# Altium footprint library ionis.PcbLib: 70 footprints (part 3 of 5)
Each footprint in its own frame and in the unit in brackets; x right, y up, seen from the top. Pads: shape width x height; smd on the part's side, far side on the other; paste and mask are expansions set on the pad; w line width, h text height; cw(c..) or ccw(c..) is an arc to the next point about the centre after c.
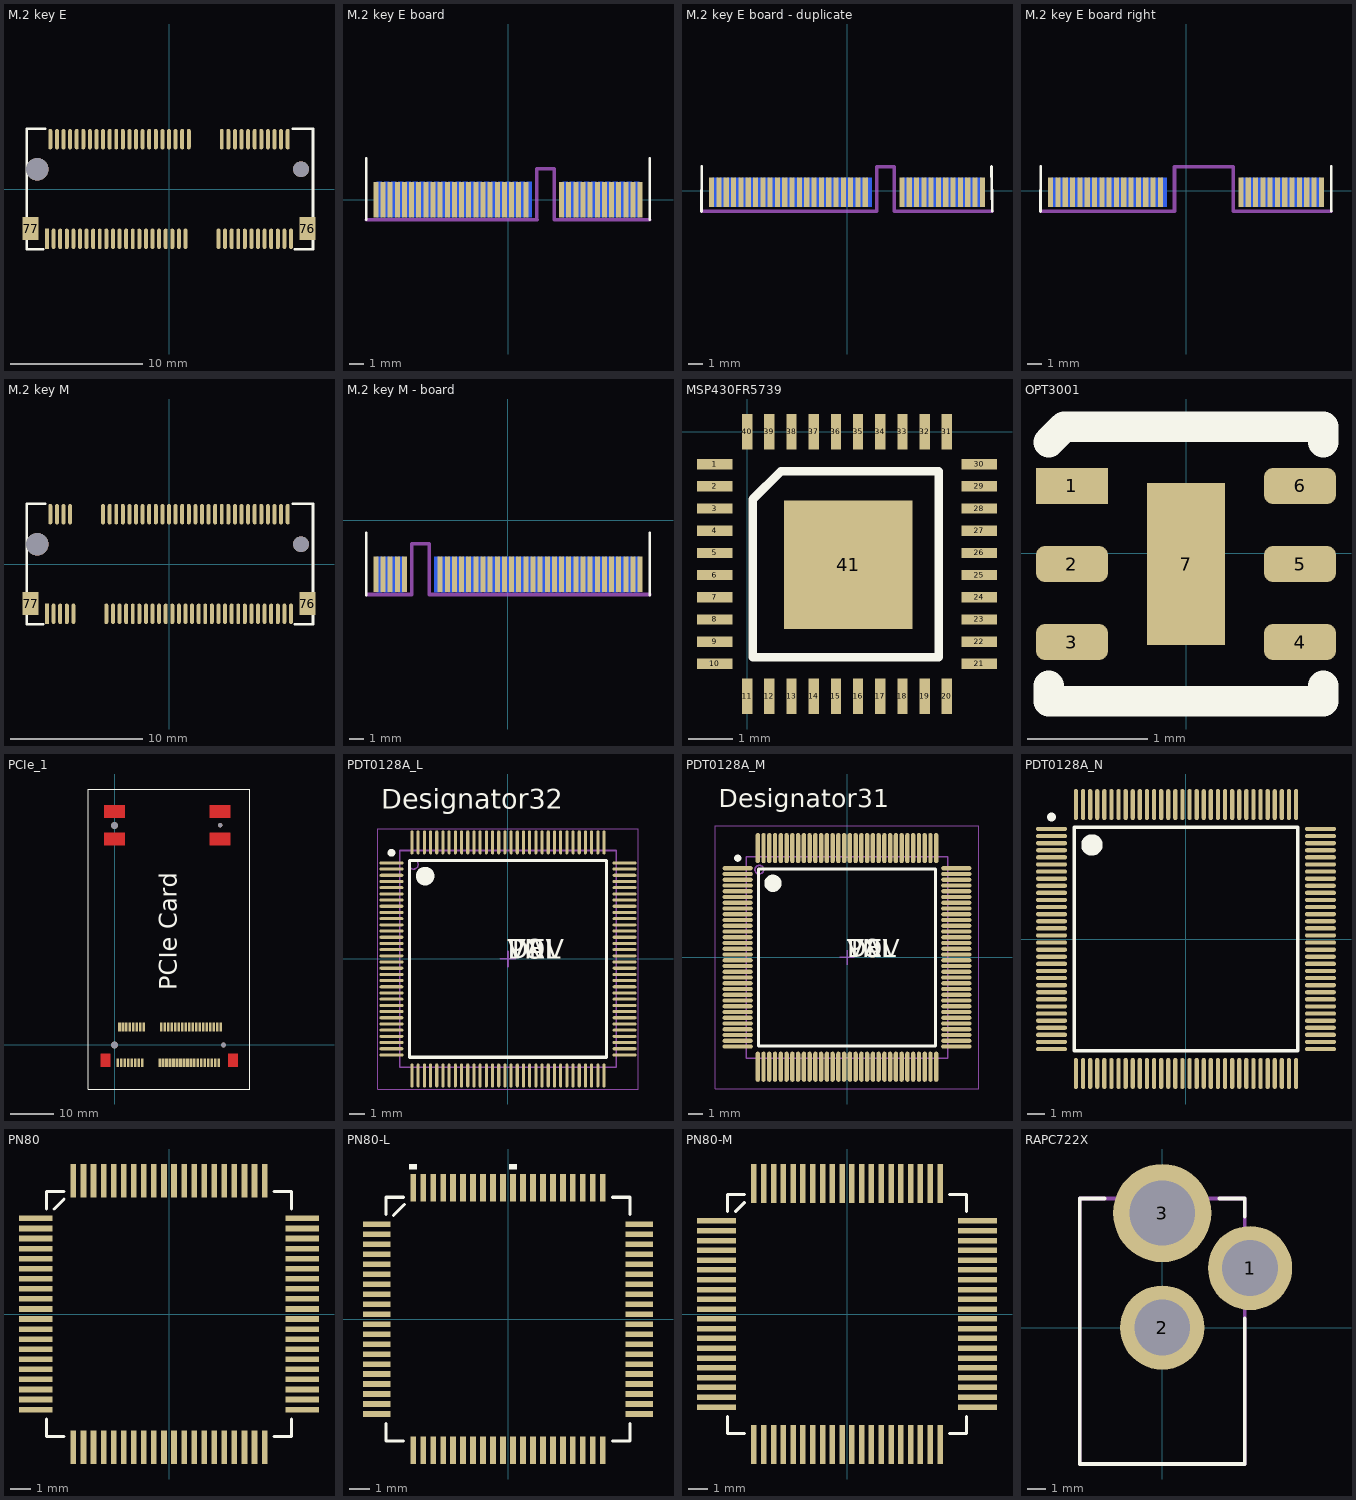
[diagram p2: the footprints below, top view; thin cyan lines are the x and y axes]

## M.2 key E [mm]
pads (69):
  oval 0.3x1.55 smd: 1(9.25,-3.775) 2(9,3.775) 3(8.75,-3.775) 4(8.5,3.775) 5(8.25,-3.775) 6(8,3.775) 7(7.75,-3.775) 8(7.5,3.775) 9(7.25,-3.775) 10(7,3.775) 11(6.75,-3.775) 12(6.5,3.775) 13(6.25,-3.775) 14(6,3.775) 15(5.75,-3.775) 16(5.5,3.775) 17(5.25,-3.775) 18(5,3.775) 19(4.75,-3.775) 20(4.5,3.775) 21(4.25,-3.775) 22(4,3.775) 23(3.75,-3.775) 32(1.5,3.775) 33(1.25,-3.775) 34(1,3.775) 35(0.75,-3.775) 36(0.5,3.775) 37(0.25,-3.775) 38(0,3.775) 39(-0.25,-3.775) 40(-0.5,3.775) 41(-0.75,-3.775) 42(-1,3.775) 43(-1.25,-3.775) 44(-1.5,3.775) 45(-1.75,-3.775) 46(-2,3.775) 47(-2.25,-3.775) 48(-2.5,3.775) 49(-2.75,-3.775) 50(-3,3.775) 51(-3.25,-3.775) 52(-3.5,3.775) 53(-3.75,-3.775) 54(-4,3.775) 55(-4.25,-3.775) 56(-4.5,3.775) 57(-4.75,-3.775) 58(-5,3.775) 59(-5.25,-3.775) 60(-5.5,3.775) 61(-5.75,-3.775) 62(-6,3.775) 63(-6.25,-3.775) 64(-6.5,3.775) 65(-6.75,-3.775) 66(-7,3.775) 67(-7.25,-3.775) 68(-7.5,3.775) 69(-7.75,-3.775) 70(-8,3.775) 71(-8.25,-3.775) 72(-8.5,3.775) 73(-8.75,-3.775) 74(-9,3.775)
  rect 0.3x1.55 smd: 75(-9.25,-3.775)
  rect 1.2x1.75 smd: 76(10.5,-3) 77(-10.5,-3)
via -10,1.5 diameter 1.7 hole 1.7
via 10,1.5 diameter 1.2 hole 1.2
Top Overlay:
  lines w0.2: -10.795,-3.429 -10.795,4.572 -9.398,4.572 ; -10.795,-0.125 -10.795,-4.572 -9.525,-4.572 ; 9.398,4.572 10.922,4.572 10.922,-4.572 9.525,-4.572

## M.2 key E board [mm]
pads (67):
  rect 0.35x2.5 smd: 1(9.25,0) 3(8.75,0) 5(8.25,0) 7(7.75,0) 9(7.25,0) 11(6.75,0) 13(6.25,0) 15(5.75,0) 17(5.25,0) 19(4.75,0) 21(4.25,0) 23(3.75,0) 33(1.25,0) 35(0.75,0) 37(0.25,0) 39(-0.25,0) 41(-0.75,0) 43(-1.25,0) 45(-1.75,0) 47(-2.25,0) 49(-2.75,0) 51(-3.25,0) 53(-3.75,0) 55(-4.25,0) 57(-4.75,0) 59(-5.25,0) 61(-5.75,0) 63(-6.25,0) 65(-6.75,0) 67(-7.25,0) 69(-7.75,0) 71(-8.25,0) 73(-8.75,0) 75(-9.25,0)
  rect 0.35x2.5 smd far side: 2(9,0) 4(8.5,0) 6(8,0) 8(7.5,0) 10(7,0) 12(6.5,0) 14(6,0) 16(5.5,0) 18(5,0) 20(4.5,0) 22(4,0) 32(1.5,0) 34(1,0) 36(0.5,0) 38(0,0) 40(-0.5,0) 42(-1,0) 44(-1.5,0) 46(-2,0) 48(-2.5,0) 50(-3,0) 52(-3.5,0) 54(-4,0) 56(-4.5,0) 58(-5,0) 60(-5.5,0) 62(-6,0) 64(-6.5,0) 66(-7,0) 68(-7.5,0) 70(-8,0) 72(-8.5,0) 74(-9,0)
Top Overlay:
  lines w0.2: -9.925,-1.397 -9.925,2.886 ; 9.925,-1.397 9.925,2.886
Mechanical 1:
  lines w0.254: -9.906,-1.397 2.032,-1.397 ; 2.025,-1.397 2.025,2.159 ; 2.032,2.159 3.226,2.159 ; 3.225,-1.397 3.225,2.159 ; 3.226,-1.397 9.906,-1.397

## M.2 key E board - duplicate [mm]
pads (67):
  rect 0.35x2 smd: 1(9.25,-0.1) 3(8.75,-0.1) 5(8.25,-0.1) 7(7.75,-0.1) 9(7.25,-0.1) 11(6.75,-0.1) 13(6.25,-0.1) 15(5.75,-0.1) 17(5.25,-0.1) 19(4.75,-0.1) 21(4.25,-0.1) 23(3.75,-0.1) 33(1.25,-0.1) 35(0.75,-0.1) 37(0.25,-0.1) 39(-0.25,-0.1) 41(-0.75,-0.1) 43(-1.25,-0.1) 45(-1.75,-0.1) 47(-2.25,-0.1) 49(-2.75,-0.1) 51(-3.25,-0.1) 53(-3.75,-0.1) 55(-4.25,-0.1) 57(-4.75,-0.1) 59(-5.25,-0.1) 61(-5.75,-0.1) 63(-6.25,-0.1) 65(-6.75,-0.1) 67(-7.25,-0.1) 69(-7.75,-0.1) 71(-8.25,-0.1) 73(-8.75,-0.1) 75(-9.25,-0.1)
  rect 0.35x2 smd far side: 2(9,-0.1) 4(8.5,-0.1) 6(8,-0.1) 8(7.5,-0.1) 10(7,-0.1) 12(6.5,-0.1) 14(6,-0.1) 16(5.5,-0.1) 18(5,-0.1) 20(4.5,-0.1) 22(4,-0.1) 32(1.5,-0.1) 34(1,-0.1) 36(0.5,-0.1) 38(0,-0.1) 40(-0.5,-0.1) 42(-1,-0.1) 44(-1.5,-0.1) 46(-2,-0.1) 48(-2.5,-0.1) 50(-3,-0.1) 52(-3.5,-0.1) 54(-4,-0.1) 56(-4.5,-0.1) 58(-5,-0.1) 60(-5.5,-0.1) 62(-6,-0.1) 64(-6.5,-0.1) 66(-7,-0.1) 68(-7.5,-0.1) 70(-8,-0.1) 72(-8.5,-0.1) 74(-9,-0.1)
Top Overlay:
  lines w0.2: -9.95,-1.422 -9.925,1.657 ; 9.874,1.667 9.925,-1.397
Mechanical 1:
  lines w0.254: -9.906,-1.397 2.032,-1.397 ; 2.025,-1.397 2.025,1.651 3.225,1.651 3.225,-1.397 ; 3.226,-1.397 9.906,-1.397

## M.2 key E board right [mm]
pads (55):
  rect 0.35x2 smd: 1(9.25,-0.1) 3(8.75,-0.1) 5(8.25,-0.1) 7(7.75,-0.1) 9(7.25,-0.1) 11(6.75,-0.1) 13(6.25,-0.1) 15(5.75,-0.1) 17(5.25,-0.1) 19(4.75,-0.1) 21(4.25,-0.1) 23(3.75,-0.1) 45(-1.75,-0.1) 47(-2.25,-0.1) 49(-2.75,-0.1) 51(-3.25,-0.1) 53(-3.75,-0.1) 55(-4.25,-0.1) 57(-4.75,-0.1) 59(-5.25,-0.1) 61(-5.75,-0.1) 63(-6.25,-0.1) 65(-6.75,-0.1) 67(-7.25,-0.1) 69(-7.75,-0.1) 71(-8.25,-0.1) 73(-8.75,-0.1) 75(-9.25,-0.1)
  rect 0.35x2 smd far side: 2(9,-0.1) 4(8.5,-0.1) 6(8,-0.1) 8(7.5,-0.1) 10(7,-0.1) 12(6.5,-0.1) 14(6,-0.1) 16(5.5,-0.1) 18(5,-0.1) 20(4.5,-0.1) 22(4,-0.1) 44(-1.5,-0.1) 46(-2,-0.1) 48(-2.5,-0.1) 50(-3,-0.1) 52(-3.5,-0.1) 54(-4,-0.1) 56(-4.5,-0.1) 58(-5,-0.1) 60(-5.5,-0.1) 62(-6,-0.1) 64(-6.5,-0.1) 66(-7,-0.1) 68(-7.5,-0.1) 70(-8,-0.1) 72(-8.5,-0.1) 74(-9,-0.1)
Top Overlay:
  lines w0.2: -9.95,-1.422 -9.925,1.657 ; 9.925,-1.397 9.925,1.667
Mechanical 1:
  lines w0.254: -9.906,-1.397 -0.787,-1.397 -0.787,1.651 3.225,1.651 3.225,-1.397 ; 3.226,-1.397 9.906,-1.397

## M.2 key M [mm]
pads (69):
  oval 0.3x1.55 smd: 1(9.25,-3.775) 2(9,3.775) 3(8.75,-3.775) 4(8.5,3.775) 5(8.25,-3.775) 6(8,3.775) 7(7.75,-3.775) 8(7.5,3.775) 9(7.25,-3.775) 10(7,3.775) 11(6.75,-3.775) 12(6.5,3.775) 13(6.25,-3.775) 14(6,3.775) 15(5.75,-3.775) 16(5.5,3.775) 17(5.25,-3.775) 18(5,3.775) 19(4.75,-3.775) 20(4.5,3.775) 21(4.25,-3.775) 22(4,3.775) 23(3.75,-3.775) 24(3.5,3.775) 25(3.25,-3.775) 26(3,3.775) 27(2.75,-3.775) 28(2.5,3.775) 29(2.25,-3.775) 30(2,3.775) 31(1.75,-3.775) 32(1.5,3.775) 33(1.25,-3.775) 34(1,3.775) 35(0.75,-3.775) 36(0.5,3.775) 37(0.25,-3.775) 38(0,3.775) 39(-0.25,-3.775) 40(-0.5,3.775) 41(-0.75,-3.775) 42(-1,3.775) 43(-1.25,-3.775) 44(-1.5,3.775) 45(-1.75,-3.775) 46(-2,3.775) 47(-2.25,-3.775) 48(-2.5,3.775) 49(-2.75,-3.775) 50(-3,3.775) 51(-3.25,-3.775) 52(-3.5,3.775) 53(-3.75,-3.775) 54(-4,3.775) 55(-4.25,-3.775) 56(-4.5,3.775) 57(-4.75,-3.775) 58(-5,3.775) 67(-7.25,-3.775) 68(-7.5,3.775) 69(-7.75,-3.775) 70(-8,3.775) 71(-8.25,-3.775) 72(-8.5,3.775) 73(-8.75,-3.775) 74(-9,3.775)
  rect 0.3x1.55 smd: 75(-9.25,-3.775)
  rect 1.2x1.75 smd: 76(10.5,-3) 77(-10.5,-3)
via -10,1.5 diameter 1.7 hole 1.7
via 10,1.5 diameter 1.2 hole 1.2
Top Overlay:
  lines w0.2: -10.795,-3.429 -10.795,4.572 -9.398,4.572 ; -10.795,-0.125 -10.795,-4.572 -9.525,-4.572 ; 9.398,4.572 10.922,4.572 10.922,-4.572 9.525,-4.572

## M.2 key M - board [mm]
pads (67):
  rect 0.35x2.5 smd: 1(9.25,-3.775) 3(8.75,-3.775) 5(8.25,-3.775) 7(7.75,-3.775) 9(7.25,-3.775) 11(6.75,-3.775) 13(6.25,-3.775) 15(5.75,-3.775) 17(5.25,-3.775) 19(4.75,-3.775) 21(4.25,-3.775) 23(3.75,-3.775) 25(3.25,-3.775) 27(2.75,-3.775) 29(2.25,-3.775) 31(1.75,-3.775) 33(1.25,-3.775) 35(0.75,-3.775) 37(0.25,-3.775) 39(-0.25,-3.775) 41(-0.75,-3.775) 43(-1.25,-3.775) 45(-1.75,-3.775) 47(-2.25,-3.775) 49(-2.75,-3.775) 51(-3.25,-3.775) 53(-3.75,-3.775) 55(-4.25,-3.775) 57(-4.75,-3.775) 67(-7.25,-3.775) 69(-7.75,-3.775) 71(-8.25,-3.775) 73(-8.75,-3.775) 75(-9.25,-3.775)
  rect 0.35x2.5 smd far side: 2(9,-3.775) 4(8.5,-3.775) 6(8,-3.775) 8(7.5,-3.775) 10(7,-3.775) 12(6.5,-3.775) 14(6,-3.775) 16(5.5,-3.775) 18(5,-3.775) 20(4.5,-3.775) 22(4,-3.775) 24(3.5,-3.775) 26(3,-3.775) 28(2.5,-3.775) 30(2,-3.775) 32(1.5,-3.775) 34(1,-3.775) 36(0.5,-3.775) 38(0,-3.775) 40(-0.5,-3.775) 42(-1,-3.775) 44(-1.5,-3.775) 46(-2,-3.775) 48(-2.5,-3.775) 50(-3,-3.775) 52(-3.5,-3.775) 54(-4,-3.775) 56(-4.5,-3.775) 58(-5,-3.775) 68(-7.5,-3.775) 70(-8,-3.775) 72(-8.5,-3.775) 74(-9,-3.775)
Top Overlay:
  lines w0.2: -9.925,-5.207 -9.925,-0.889 ; 9.925,-5.207 9.925,-0.889
Mechanical 1:
  lines w0.254: -9.881,-5.182 -6.756,-5.182 ; -6.725,-5.182 -6.725,-1.626 -5.525,-1.626 -5.525,-5.182 ; -5.486,-5.182 9.931,-5.182

## MSP430FR5739 [mm]
pads (41):
  rect 0.8x0.23 smd: 1(-0.73,-0.73) 2(-0.73,-1.23) 3(-0.73,-1.73) 4(-0.73,-2.23) 5(-0.73,-2.73) 6(-0.73,-3.23) 7(-0.73,-3.73) 8(-0.73,-4.23) 9(-0.73,-4.73) 10(-0.73,-5.23) 21(5.23,-5.23) 22(5.23,-4.73) 23(5.23,-4.23) 24(5.23,-3.73) 25(5.23,-3.23) 26(5.23,-2.73) 27(5.23,-2.23) 28(5.23,-1.73) 29(5.23,-1.23) 30(5.23,-0.73)
  rect 0.23x0.8 smd: 11(0,-5.96) 12(0.5,-5.96) 13(1,-5.96) 14(1.5,-5.96) 15(2,-5.96) 16(2.5,-5.96) 17(3,-5.96) 18(3.5,-5.96) 19(4,-5.96) 20(4.5,-5.96) 31(4.5,0) 32(4,0) 33(3.5,0) 34(3,0) 35(2.5,0) 36(2,0) 37(1.5,0) 38(1,0) 39(0.5,0) 40(0,0)
  rect 2.9x2.9 smd: 41(2.275,-3)
Top Overlay:
  lines w0.2: 0.127,-5.08 4.318,-5.08 4.318,-0.889 0.762,-0.889 0.127,-1.524 0.127,-5.08

## OPT3001 [mm]
pads (7):
  rect 0.6x0.3 smd: 1(-0.95,0.56)
  rrect50% 0.6x0.3 smd: 2(-0.95,-0.09) 3(-0.95,-0.74) 4(0.95,-0.74) 5(0.95,-0.09) 6(0.95,0.56)
  rect 0.65x1.35 smd: 7(0,-0.09)
Top Overlay:
  lines w0.254: -1.143,-1.106 -1.143,-1.233 1.143,-1.233 1.143,-1.106 ; -1.143,0.926 -1.016,1.053 1.143,1.053 1.143,0.926

## PCIe_1 [mm]
pads (52):
  rect 0.6x2 smd: 1(0.7,-4.1) 2(1.1,4.1) 3(1.5,-4.1) 4(1.9,4.1) 5(2.3,-4.1) 6(2.7,4.1) 7(3.1,-4.1) 8(3.5,4.1) 9(3.9,-4.1) 10(4.3,4.1) 11(4.7,-4.1) 12(5.1,4.1) 13(5.5,-4.1) 14(5.9,4.1) 15(6.3,-4.1) 16(6.7,4.1) 17(10.3,-4.1) 18(10.7,4.1) 19(11.1,-4.1) 20(11.5,4.1) 21(11.9,-4.1) 22(12.3,4.1) 23(12.7,-4.1) 24(13.1,4.1) 25(13.5,-4.1) 26(13.9,4.1) 27(14.3,-4.1) 28(14.7,4.1) 29(15.1,-4.1) 30(15.5,4.1) 31(15.9,-4.1) 32(16.3,4.1) 33(16.7,-4.1) 34(17.1,4.1) 35(17.5,-4.1) 36(17.9,4.1) 37(18.3,-4.1) 38(18.7,4.1) 39(19.1,-4.1) 40(19.5,4.1) 41(19.9,-4.1) 42(20.3,4.1) 43(20.7,-4.1) 44(21.1,4.1) 45(21.5,-4.1) 46(21.9,4.1) 47(22.3,-4.1) 48(22.7,4.1) 49(23.1,-4.1) 50(23.5,4.1) 51(23.9,-4.1) 52(24.3,4.1)
via 24.2,50.4 diameter 1.1 hole 1.1
via 0,50.4 diameter 1.6 hole 1.6
via 25,0 diameter 1.1 hole 1.1
via 0,0 diameter 1.6 hole 1.6
Top Layer:
  rectangle: 21.8,45.75 26.6,48.75
  rectangle: 21.8,52.05 26.6,55.05
  rectangle: -2.4,45.75 2.4,48.75
  rectangle: -2.4,52.05 2.4,55.05
  rectangle: -3.3,-5.1 -1,-1.9
  rectangle: 26,-5.1 28.3,-1.9
Top Overlay:
  lines w0.254: 30.963,58.725 -6.071,58.725 -6.071,-10.1 31,-10.1 31,58.725
  text "PCIe Card" at 14.224,12.598 h4

## PDT0128A_L [mm]
pads (128):
  oval 1.55x0.2 smd paste-0.762 mask+0.051: 1(-7.525,6.2) 2(-7.525,5.8) 3(-7.525,5.4) 4(-7.525,5) 5(-7.525,4.6) 6(-7.525,4.2) 7(-7.525,3.8) 8(-7.525,3.4) 9(-7.525,3) 10(-7.525,2.6) 11(-7.525,2.2) 12(-7.525,1.8) 13(-7.525,1.4) 14(-7.525,1) 15(-7.525,0.6) 16(-7.525,0.2) 17(-7.525,-0.2) 18(-7.525,-0.6) 19(-7.525,-1) 20(-7.525,-1.4) 21(-7.525,-1.8) 22(-7.525,-2.2) 23(-7.525,-2.6) 24(-7.525,-3) 25(-7.525,-3.4) 26(-7.525,-3.8) 27(-7.525,-4.2) 28(-7.525,-4.6) 29(-7.525,-5) 30(-7.525,-5.4) 31(-7.525,-5.8) 32(-7.525,-6.2) 65(7.525,-6.2) 66(7.525,-5.8) 67(7.525,-5.4) 68(7.525,-5) 69(7.525,-4.6) 70(7.525,-4.2) 71(7.525,-3.8) 72(7.525,-3.4) 73(7.525,-3) 74(7.525,-2.6) 75(7.525,-2.2) 76(7.525,-1.8) 77(7.525,-1.4) 78(7.525,-1) 79(7.525,-0.6) 80(7.525,-0.2) 81(7.525,0.2) 82(7.525,0.6) 83(7.525,1) 84(7.525,1.4) 85(7.525,1.8) 86(7.525,2.2) 87(7.525,2.6) 88(7.525,3) 89(7.525,3.4) 90(7.525,3.8) 91(7.525,4.2) 92(7.525,4.6) 93(7.525,5) 94(7.525,5.4) 95(7.525,5.8) 96(7.525,6.2)
  oval 0.2x1.55 smd paste-0.762 mask+0.051: 33(-6.2,-7.525) 34(-5.8,-7.525) 35(-5.4,-7.525) 36(-5,-7.525) 37(-4.6,-7.525) 38(-4.2,-7.525) 39(-3.8,-7.525) 40(-3.4,-7.525) 41(-3,-7.525) 42(-2.6,-7.525) 43(-2.2,-7.525) 44(-1.8,-7.525) 45(-1.4,-7.525) 46(-1,-7.525) 47(-0.6,-7.525) 48(-0.2,-7.525) 49(0.2,-7.525) 50(0.6,-7.525) 51(1,-7.525) 52(1.4,-7.525) 53(1.8,-7.525) 54(2.2,-7.525) 55(2.6,-7.525) 56(3,-7.525) 57(3.4,-7.525) 58(3.8,-7.525) 59(4.2,-7.525) 60(4.6,-7.525) 61(5,-7.525) 62(5.4,-7.525) 63(5.8,-7.525) 64(6.2,-7.525) 97(6.2,7.525) 98(5.8,7.525) 99(5.4,7.525) 100(5,7.525) 101(4.6,7.525) 102(4.2,7.525) 103(3.8,7.525) 104(3.4,7.525) 105(3,7.525) 106(2.6,7.525) 107(2.2,7.525) 108(1.8,7.525) 109(1.4,7.525) 110(1,7.525) 111(0.6,7.525) 112(0.2,7.525) 113(-0.2,7.525) 114(-0.6,7.525) 115(-1,7.525) 116(-1.4,7.525) 117(-1.8,7.525) 118(-2.2,7.525) 119(-2.6,7.525) 120(-3,7.525) 121(-3.4,7.525) 122(-3.8,7.525) 123(-4.2,7.525) 124(-4.6,7.525) 125(-5,7.525) 126(-5.4,7.525) 127(-5.8,7.525) 128(-6.2,7.525)
Top Overlay:
  circle w0.6: c-5.35,5.35 r0.3
  circle w0.25: c-7.525,6.85 r0.125
  lines w0.2: -6.35,-6.35 6.35,-6.35 6.35,6.35 -6.35,6.35 -6.35,-6.35
  text "Designator32" at -8.179,9.703 h1.27
  text "TOL" at 0,0 h1.27
  text "VAL" at 0,0 h1.27
  text "PN" at 0,0 h1.27
  text "DEV" at 0,0 h1.27
Mechanical 13:
  circle w0.1: c-6.1,6.1 r0.3
  lines w0.1: -7,-7 7,-7 7,7 -7,7 -7,-7
  text ".Designator" at -1.854,-0.508 h1.27
Mechanical 15:
  lines w0.05: -8.4,-8.4 8.4,-8.4 8.4,8.4 -8.4,8.4 -8.4,-8.4
  lines w0.1: -0.5,0 0.5,0 ; 0,-0.5 0,0.5
3D body: height 0.25, standoff 0, extent 0,0 0.254,0.254

## PDT0128A_M [mm]
pads (128):
  oval 2.1x0.3 smd paste-0.102 mask+0.051: 1(-7.6,6.2) 2(-7.6,5.8) 3(-7.6,5.4) 4(-7.6,5) 5(-7.6,4.6) 6(-7.6,4.2) 7(-7.6,3.8) 8(-7.6,3.4) 9(-7.6,3) 10(-7.6,2.6) 11(-7.6,2.2) 12(-7.6,1.8) 13(-7.6,1.4) 14(-7.6,1) 15(-7.6,0.6) 16(-7.6,0.2) 17(-7.6,-0.2) 18(-7.6,-0.6) 19(-7.6,-1) 20(-7.6,-1.4) 21(-7.6,-1.8) 22(-7.6,-2.2) 23(-7.6,-2.6) 24(-7.6,-3) 25(-7.6,-3.4) 26(-7.6,-3.8) 27(-7.6,-4.2) 28(-7.6,-4.6) 29(-7.6,-5) 30(-7.6,-5.4) 31(-7.6,-5.8) 32(-7.6,-6.2) 65(7.6,-6.2) 66(7.6,-5.8) 67(7.6,-5.4) 68(7.6,-5) 69(7.6,-4.6) 70(7.6,-4.2) 71(7.6,-3.8) 72(7.6,-3.4) 73(7.6,-3) 74(7.6,-2.6) 75(7.6,-2.2) 76(7.6,-1.8) 77(7.6,-1.4) 78(7.6,-1) 79(7.6,-0.6) 80(7.6,-0.2) 81(7.6,0.2) 82(7.6,0.6) 83(7.6,1) 84(7.6,1.4) 85(7.6,1.8) 86(7.6,2.2) 87(7.6,2.6) 88(7.6,3) 89(7.6,3.4) 90(7.6,3.8) 91(7.6,4.2) 92(7.6,4.6) 93(7.6,5) 94(7.6,5.4) 95(7.6,5.8) 96(7.6,6.2)
  oval 0.3x2.1 smd paste-0.102 mask+0.051: 33(-6.2,-7.6) 34(-5.8,-7.6) 35(-5.4,-7.6) 36(-5,-7.6) 37(-4.6,-7.6) 38(-4.2,-7.6) 39(-3.8,-7.6) 40(-3.4,-7.6) 41(-3,-7.6) 42(-2.6,-7.6) 43(-2.2,-7.6) 44(-1.8,-7.6) 45(-1.4,-7.6) 46(-1,-7.6) 47(-0.6,-7.6) 48(-0.2,-7.6) 49(0.2,-7.6) 50(0.6,-7.6) 51(1,-7.6) 52(1.4,-7.6) 53(1.8,-7.6) 54(2.2,-7.6) 55(2.6,-7.6) 56(3,-7.6) 57(3.4,-7.6) 58(3.8,-7.6) 59(4.2,-7.6) 60(4.6,-7.6) 61(5,-7.6) 62(5.4,-7.6) 63(5.8,-7.6) 64(6.2,-7.6) 97(6.2,7.6) 98(5.8,7.6) 99(5.4,7.6) 100(5,7.6) 101(4.6,7.6) 102(4.2,7.6) 103(3.8,7.6) 104(3.4,7.6) 105(3,7.6) 106(2.6,7.6) 107(2.2,7.6) 108(1.8,7.6) 109(1.4,7.6) 110(1,7.6) 111(0.6,7.6) 112(0.2,7.6) 113(-0.2,7.6) 114(-0.6,7.6) 115(-1,7.6) 116(-1.4,7.6) 117(-1.8,7.6) 118(-2.2,7.6) 119(-2.6,7.6) 120(-3,7.6) 121(-3.4,7.6) 122(-3.8,7.6) 123(-4.2,7.6) 124(-4.6,7.6) 125(-5,7.6) 126(-5.4,7.6) 127(-5.8,7.6) 128(-6.2,7.6)
Top Overlay:
  circle w0.25: c-7.6,6.9 r0.125
  circle w0.6: c-5.15,5.15 r0.3
  lines w0.2: -6.15,-6.15 -6.15,6.15 6.15,6.15 6.15,-6.15 -6.15,-6.15
  text "Designator31" at -8.915,10.439 h1.27
  text "TOL" at 0,0 h1.27
  text "VAL" at 0,0 h1.27
  text "PN" at 0,0 h1.27
  text "DEV" at 0,0 h1.27
Mechanical 13:
  circle w0.1: c-6.1,6.1 r0.3
  lines w0.1: -7,-7 -7,7 7,7 7,-7 -7,-7
  text ".Designator" at -1.854,-0.508 h1.27
Mechanical 15:
  lines w0.05: -9.15,-9.15 -9.15,9.15 9.15,9.15 9.15,-9.15 -9.15,-9.15
  lines w0.1: -0.5,0 0.5,0 ; 0,-0.5 0,0.5
3D body: height 0.25, standoff 0, extent 0,0 0.254,0.254

## PDT0128A_N [mm]
pads (128):
  oval 1.75x0.24 smd paste-0.102 mask+0.051: 1(-7.575,6.2) 2(-7.575,5.8) 3(-7.575,5.4) 4(-7.575,5) 5(-7.575,4.6) 6(-7.575,4.2) 7(-7.575,3.8) 8(-7.575,3.4) 9(-7.575,3) 10(-7.575,2.6) 11(-7.575,2.2) 12(-7.575,1.8) 13(-7.575,1.4) 14(-7.575,1) 15(-7.575,0.6) 16(-7.575,0.2) 17(-7.575,-0.2) 18(-7.575,-0.6) 19(-7.575,-1) 20(-7.575,-1.4) 21(-7.575,-1.8) 22(-7.575,-2.2) 23(-7.575,-2.6) 24(-7.575,-3) 25(-7.575,-3.4) 26(-7.575,-3.8) 27(-7.575,-4.2) 28(-7.575,-4.6) 29(-7.575,-5) 30(-7.575,-5.4) 31(-7.575,-5.8) 32(-7.575,-6.2) 65(7.575,-6.2) 66(7.575,-5.8) 67(7.575,-5.4) 68(7.575,-5) 69(7.575,-4.6) 70(7.575,-4.2) 71(7.575,-3.8) 72(7.575,-3.4) 73(7.575,-3) 74(7.575,-2.6) 75(7.575,-2.2) 76(7.575,-1.8) 77(7.575,-1.4) 78(7.575,-1) 79(7.575,-0.6) 80(7.575,-0.2) 81(7.575,0.2) 82(7.575,0.6) 83(7.575,1) 84(7.575,1.4) 85(7.575,1.8) 86(7.575,2.2) 87(7.575,2.6) 88(7.575,3) 89(7.575,3.4) 90(7.575,3.8) 91(7.575,4.2) 92(7.575,4.6) 93(7.575,5) 94(7.575,5.4) 95(7.575,5.8) 96(7.575,6.2)
  oval 0.24x1.75 smd paste-0.102 mask+0.051: 33(-6.2,-7.575) 34(-5.8,-7.575) 35(-5.4,-7.575) 36(-5,-7.575) 37(-4.6,-7.575) 38(-4.2,-7.575) 39(-3.8,-7.575) 40(-3.4,-7.575) 41(-3,-7.575) 42(-2.6,-7.575) 43(-2.2,-7.575) 44(-1.8,-7.575) 45(-1.4,-7.575) 46(-1,-7.575) 47(-0.6,-7.575) 48(-0.2,-7.575) 49(0.2,-7.575) 50(0.6,-7.575) 51(1,-7.575) 52(1.4,-7.575) 53(1.8,-7.575) 54(2.2,-7.575) 55(2.6,-7.575) 56(3,-7.575) 57(3.4,-7.575) 58(3.8,-7.575) 59(4.2,-7.575) 60(4.6,-7.575) 61(5,-7.575) 62(5.4,-7.575) 63(5.8,-7.575) 64(6.2,-7.575) 97(6.2,7.575) 98(5.8,7.575) 99(5.4,7.575) 100(5,7.575) 101(4.6,7.575) 102(4.2,7.575) 103(3.8,7.575) 104(3.4,7.575) 105(3,7.575) 106(2.6,7.575) 107(2.2,7.575) 108(1.8,7.575) 109(1.4,7.575) 110(1,7.575) 111(0.6,7.575) 112(0.2,7.575) 113(-0.2,7.575) 114(-0.6,7.575) 115(-1,7.575) 116(-1.4,7.575) 117(-1.8,7.575) 118(-2.2,7.575) 119(-2.6,7.575) 120(-3,7.575) 121(-3.4,7.575) 122(-3.8,7.575) 123(-4.2,7.575) 124(-4.6,7.575) 125(-5,7.575) 126(-5.4,7.575) 127(-5.8,7.575) 128(-6.2,7.575)
Top Overlay:
  circle w0.25: c-7.575,6.87 r0.125
  circle w0.6: c-5.3,5.3 r0.3
  lines w0.2: -6.3,-6.3 -6.3,6.3 6.3,6.3 6.3,-6.3 -6.3,-6.3

## PN80 [mil]
pads (80):
  rect 66x11 smd: 1(-260.5,187.01) 2(-260.5,167.32) 3(-260.5,147.64) 4(-260.5,127.95) 5(-260.5,108.27) 6(-260.5,88.58) 7(-260.5,68.9) 8(-260.5,49.21) 9(-260.5,29.53) 10(-260.5,9.84) 11(-260.5,-9.84) 12(-260.5,-29.53) 13(-260.5,-49.21) 14(-260.5,-68.9) 15(-260.5,-88.58) 16(-260.5,-108.27) 17(-260.5,-127.95) 18(-260.5,-147.64) 19(-260.5,-167.32) 20(-260.5,-187.01) 41(260.5,-187.01) 42(260.5,-167.32) 43(260.5,-147.64) 44(260.5,-127.95) 45(260.5,-108.27) 46(260.5,-88.58) 47(260.5,-68.9) 48(260.5,-49.21) 49(260.5,-29.53) 50(260.5,-9.84) 51(260.5,9.84) 52(260.5,29.53) 53(260.5,49.21) 54(260.5,68.9) 55(260.5,88.58) 56(260.5,108.27) 57(260.5,127.95) 58(260.5,147.64) 59(260.5,167.32) 60(260.5,187.01)
  rect 11x66 smd: 21(-187.01,-260.5) 22(-167.32,-260.5) 23(-147.64,-260.5) 24(-127.95,-260.5) 25(-108.27,-260.5) 26(-88.58,-260.5) 27(-68.9,-260.5) 28(-49.21,-260.5) 29(-29.53,-260.5) 30(-9.84,-260.5) 31(9.84,-260.5) 32(29.53,-260.5) 33(49.21,-260.5) 34(68.9,-260.5) 35(88.58,-260.5) 36(108.27,-260.5) 37(127.95,-260.5) 38(147.64,-260.5) 39(167.32,-260.5) 40(187.01,-260.5) 61(187.01,260.5) 62(167.32,260.5) 63(147.64,260.5) 64(127.95,260.5) 65(108.27,260.5) 66(88.58,260.5) 67(68.9,260.5) 68(49.21,260.5) 69(29.53,260.5) 70(9.84,260.5) 71(-9.84,260.5) 72(-29.53,260.5) 73(-49.21,260.5) 74(-68.9,260.5) 75(-88.58,260.5) 76(-108.27,260.5) 77(-127.95,260.5) 78(-147.64,260.5) 79(-167.32,260.5) 80(-187.01,260.5)
Top Overlay:
  lines w6: -240,-205.61 -240,-240 -205.61,-240 ; -240,205.61 -240,240 -205.61,240 ; -224.7,205.3 -205.3,224.7 ; 205.61,-240 240,-240 240,-205.61 ; 205.61,240 240,240 240,205.61

## PN80-L [mil]
pads (80):
  rect 54x11 smd: 1(-258.5,187.01) 2(-258.5,167.32) 3(-258.5,147.64) 4(-258.5,127.95) 5(-258.5,108.27) 6(-258.5,88.58) 7(-258.5,68.9) 8(-258.5,49.21) 9(-258.5,29.53) 10(-258.5,9.84) 11(-258.5,-9.84) 12(-258.5,-29.53) 13(-258.5,-49.21) 14(-258.5,-68.9) 15(-258.5,-88.58) 16(-258.5,-108.27) 17(-258.5,-127.95) 18(-258.5,-147.64) 19(-258.5,-167.32) 20(-258.5,-187.01) 41(258.5,-187.01) 42(258.5,-167.32) 43(258.5,-147.64) 44(258.5,-127.95) 45(258.5,-108.27) 46(258.5,-88.58) 47(258.5,-68.9) 48(258.5,-49.21) 49(258.5,-29.53) 50(258.5,-9.84) 51(258.5,9.84) 52(258.5,29.53) 53(258.5,49.21) 54(258.5,68.9) 55(258.5,88.58) 56(258.5,108.27) 57(258.5,127.95) 58(258.5,147.64) 59(258.5,167.32) 60(258.5,187.01)
  rect 11x54 smd: 21(-187.01,-258.5) 22(-167.32,-258.5) 23(-147.64,-258.5) 24(-127.95,-258.5) 25(-108.27,-258.5) 26(-88.58,-258.5) 27(-68.9,-258.5) 28(-49.21,-258.5) 29(-29.53,-258.5) 30(-9.84,-258.5) 31(9.84,-258.5) 32(29.53,-258.5) 33(49.21,-258.5) 34(68.9,-258.5) 35(88.58,-258.5) 36(108.27,-258.5) 37(127.95,-258.5) 38(147.64,-258.5) 39(167.32,-258.5) 40(187.01,-258.5) 61(187.01,258.5) 62(167.32,258.5) 63(147.64,258.5) 64(127.95,258.5) 65(108.27,258.5) 66(88.58,258.5) 67(68.9,258.5) 68(49.21,258.5) 69(29.53,258.5) 70(9.84,258.5) 71(-9.84,258.5) 72(-29.53,258.5) 73(-49.21,258.5) 74(-68.9,258.5) 75(-88.58,258.5) 76(-108.27,258.5) 77(-127.95,258.5) 78(-147.64,258.5) 79(-167.32,258.5) 80(-187.01,258.5)
Top Overlay:
  region: -179.51,295.5 -194.51,295.5 -194.51,305.5 -179.51,305.5
  region: 17.34,295.5 2.34,295.5 2.34,305.5 17.34,305.5
  lines w6: -240,-205.61 -240,-240 -205.61,-240 ; -240,205.61 -240,240 -205.61,240 ; -225.73,204.27 -204.27,225.73 ; 205.61,-240 240,-240 240,-205.61 ; 205.61,240 240,240 240,205.61

## PN80-M [mil]
pads (80):
  rect 78x11 smd: 1(-262.5,187.01) 2(-262.5,167.32) 3(-262.5,147.64) 4(-262.5,127.95) 5(-262.5,108.27) 6(-262.5,88.58) 7(-262.5,68.9) 8(-262.5,49.21) 9(-262.5,29.53) 10(-262.5,9.84) 11(-262.5,-9.84) 12(-262.5,-29.53) 13(-262.5,-49.21) 14(-262.5,-68.9) 15(-262.5,-88.58) 16(-262.5,-108.27) 17(-262.5,-127.95) 18(-262.5,-147.64) 19(-262.5,-167.32) 20(-262.5,-187.01) 41(262.5,-187.01) 42(262.5,-167.32) 43(262.5,-147.64) 44(262.5,-127.95) 45(262.5,-108.27) 46(262.5,-88.58) 47(262.5,-68.9) 48(262.5,-49.21) 49(262.5,-29.53) 50(262.5,-9.84) 51(262.5,9.84) 52(262.5,29.53) 53(262.5,49.21) 54(262.5,68.9) 55(262.5,88.58) 56(262.5,108.27) 57(262.5,127.95) 58(262.5,147.64) 59(262.5,167.32) 60(262.5,187.01)
  rect 11x78 smd: 21(-187.01,-262.5) 22(-167.32,-262.5) 23(-147.64,-262.5) 24(-127.95,-262.5) 25(-108.27,-262.5) 26(-88.58,-262.5) 27(-68.9,-262.5) 28(-49.21,-262.5) 29(-29.53,-262.5) 30(-9.84,-262.5) 31(9.84,-262.5) 32(29.53,-262.5) 33(49.21,-262.5) 34(68.9,-262.5) 35(88.58,-262.5) 36(108.27,-262.5) 37(127.95,-262.5) 38(147.64,-262.5) 39(167.32,-262.5) 40(187.01,-262.5) 61(187.01,262.5) 62(167.32,262.5) 63(147.64,262.5) 64(127.95,262.5) 65(108.27,262.5) 66(88.58,262.5) 67(68.9,262.5) 68(49.21,262.5) 69(29.53,262.5) 70(9.84,262.5) 71(-9.84,262.5) 72(-29.53,262.5) 73(-49.21,262.5) 74(-68.9,262.5) 75(-88.58,262.5) 76(-108.27,262.5) 77(-127.95,262.5) 78(-147.64,262.5) 79(-167.32,262.5) 80(-187.01,262.5)
Top Overlay:
  lines w6: -240,-205.61 -240,-240 -205.61,-240 ; -240,205.61 -240,240 -205.61,240 ; -224.39,205.61 -205.61,224.39 ; 205.61,-240 240,-240 240,-205.61 ; 205.61,240 240,240 240,205.61

## RAPC722X [mm]
pads (3):
  round 4.6 hole 3.05: 1(4.8,3.25) 2(0,0)
  round 5.36 hole 3.56: 3(0,6.25)
Top Overlay:
  lines w0.2: -3.132,7.05 -4.5,7.05 -4.5,-7.45 4.5,-7.45 4.5,0.507 ; 3.115,7.05 4.5,7.05 4.5,6.057
Mechanical 15:
  lines w0.2: -4.5,-7.45 4.5,-7.45 4.5,7.05 -4.5,7.05 -4.5,-7.45